# EAGLE library part XM1110_GPS (library maka-niu)
AirPrime XM1110 GPS
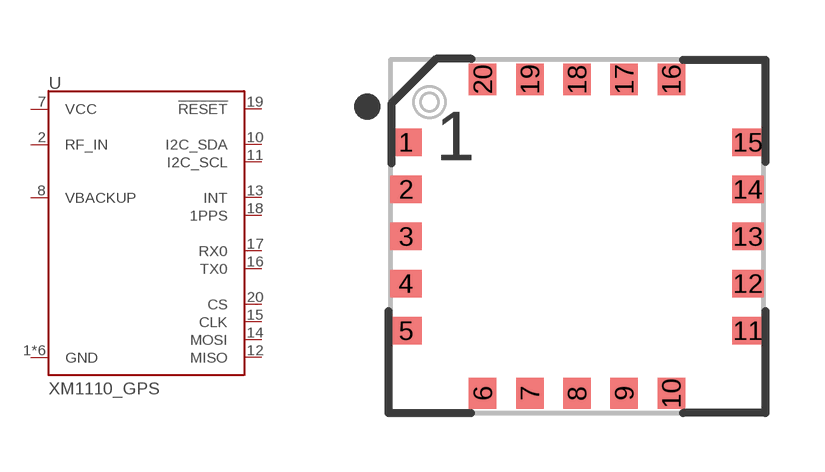
[diagram p3: symbol with the pads of XM1110_GPS; footprint XM1110_GPS]

Designator prefix -

## XM1110_GPS (VALUE: XM1110 GPS)  [XM1110_GPS]
1  GND  pwr
2  RF_IN  in
3  GND  pwr
4  GND  pwr
5  GND  pwr
6  GND  pwr
7  VCC  pwr
8  VBACKUP  in
9  GND  pwr
10  I2C_SDA
11  I2C_SCL  in
12  MISO  out
13  INT  out
14  MOSI  in
15  CLK  in
16  TX0  out
17  RX0  in
18  1PPS  out
19  !RESET  in
20  CS  in

## Footprint XM1110_GPS (pad centres in mm)
AirPrime XM1110 GPS
smd 0.8 x 0.7: 1 -4.35,2.4; 2 -4.35,1.2; 3 -4.35,0; 4 -4.35,-1.2; 5 -4.35,-2.4; 11 4.35,-2.4; 12 4.35,-1.2; 13 4.35,0; 14 4.35,1.2; 15 4.35,2.4
smd 0.7 x 0.8: 6 -2.4,-4; 7 -1.2,-4; 8 0,-4; 9 1.2,-4; 10 2.4,-4; 16 2.4,4; 17 1.2,4; 18 0,4; 19 -1.2,4; 20 -2.4,4